# Altium footprint library PcbLib.PcbLib: 29 footprints (part 1 of 2)
Each footprint in its own frame and in the unit in brackets; x right, y up, seen from the top. Pads: shape width x height; smd on the part's side, far side on the other; paste and mask are expansions set on the pad; w line width, h text height; cw(c..) or ccw(c..) is an arc to the next point about the centre after c.
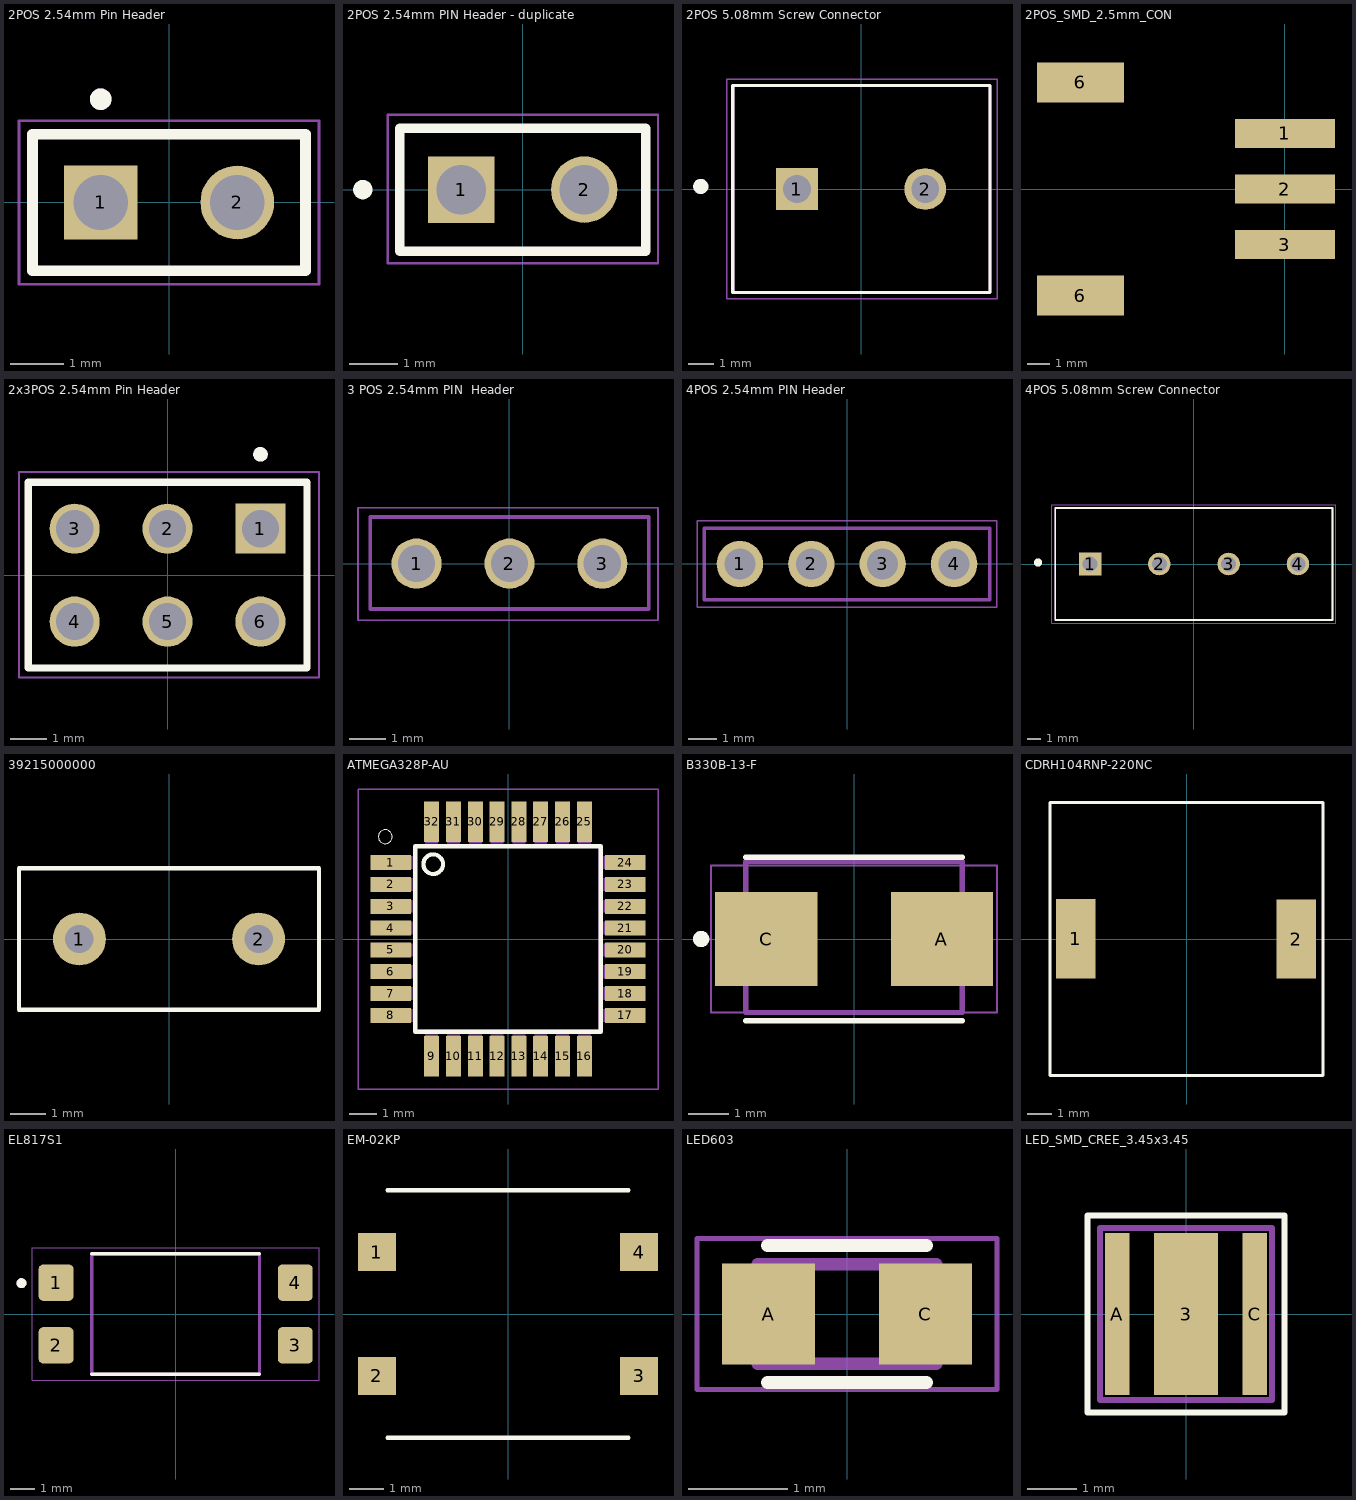
[diagram p0: the footprints below, top view; thin cyan lines are the x and y axes]

## 2POS 2.54mm Pin Header [mm]
pads (2):
  rect 1.37x1.37 hole 1.02: 1(-1.27,0)
  round 1.37 hole 1.02: 2(1.27,0)
Top Overlay:
  circle w0.2: c-1.27,1.92 r0.1
  lines w0.2: -2.54,-1.27 -2.54,1.27 2.54,1.27 2.54,-1.27 -2.54,-1.27
Mechanical 13:
  circle w0.2: c-1.27,1.92 r0.1
  lines w0.1: -2.54,-1.27 -2.54,1.27 2.54,1.27 2.54,-1.27 -2.54,-1.27
Mechanical 15:
  lines w0.05: -2.79,-1.52 -2.79,1.52 2.79,1.52 2.79,-1.52 -2.79,-1.52

## 2POS 2.54mm PIN Header - duplicate [mm]
pads (2):
  rect 1.37x1.37 hole 1.02: 1(-1.27,0)
  round 1.37 hole 1.02: 2(1.27,0)
Top Overlay:
  circle w0.2: c-3.302,0 r0.1
  lines w0.2: -2.54,-1.27 -2.54,1.27 2.54,1.27 2.54,-1.27 -2.54,-1.27
Mechanical 13:
  lines w0.1: -2.54,-1.27 -2.54,1.245 2.54,1.245 2.54,-1.27 -2.54,-1.27
Mechanical 15:
  lines w0.05: -2.79,-1.524 -2.79,1.549 2.794,1.549 2.794,-1.524 -2.79,-1.524

## 2POS 5.08mm Screw Connector [mm]
pads (2):
  rect 1.65x1.65 hole 1.1: 1(-2.54,0)
  round 1.65 hole 1.1: 2(2.54,0)
Top Overlay:
  circle w0.3: c-6.35,0.102 r0.15
  lines w0.127: -5.08,-4.1 -5.08,4.1 5.105,4.1 5.105,-4.1 -5.08,-4.1
Mechanical 13:
  circle w0.3: c-2.54,0 r0.15
  lines w0.127: -5.08,-4.1 -5.08,4.1 5.105,4.1 5.105,-4.1 -5.08,-4.1
Mechanical 15:
  lines w0.05: -5.33,-4.35 5.385,-4.35 5.385,4.35 -5.33,4.35 -5.33,-4.35

## 2POS_SMD_2.5mm_CON [mm]
pads (5):
  rect 4.5x1.3 smd: 1(0,2.5) 2(0,0) 3(0,-2.5)
  rect 3.9x1.8 smd: 6(-9.2,-4.8) 6(-9.2,4.8)

## 2x3POS 2.54mm Pin Header [mm]
pads (6):
  rect 1.37x1.37 hole 1.02: 1(2.54,1.27)
  round 1.37 hole 1.02: 2(0,1.27) 3(-2.54,1.27) 4(-2.54,-1.27) 5(0,-1.27) 6(2.54,-1.27)
Top Overlay:
  circle w0.2: c2.54,3.302 r0.1
  lines w0.2: -3.81,-2.54 -3.81,2.54 3.81,2.54 3.81,-2.54 -3.81,-2.54
Mechanical 13:
  lines w0.1: -3.81,-2.565 -3.81,2.515 3.81,2.515 3.81,-2.565 -3.81,-2.565
Mechanical 15:
  lines w0.05: -4.06,-2.794 -4.06,2.819 4.14,2.819 4.14,-2.794 -4.06,-2.794

## 3 POS 2.54mm PIN  Header [mm]
pads (3):
  round 1.37 hole 1.02: 1(-2.54,0) 2(0,0) 3(2.54,0)
Mechanical 13:
  lines w0.1: -3.81,-1.245 3.81,-1.245 3.81,1.27 -3.81,1.27 -3.81,-1.245
Mechanical 15:
  lines w0.05: -4.14,-1.549 -4.14,1.524 4.06,1.524 4.06,-1.549 -4.14,-1.549

## 4POS 2.54mm PIN Header [mm]
pads (4):
  round 1.65 hole 1.1: 1(-3.81,0) 2(-1.27,0) 3(1.27,0) 4(3.81,0)
Mechanical 13:
  lines w0.127: -5.08,-1.27 5.08,-1.27 5.08,1.27 -5.08,1.27 -5.08,-1.27
Mechanical 15:
  lines w0.05: -5.334,-1.544 -5.334,1.544 5.334,1.544 5.334,-1.544 -5.334,-1.544

## 4POS 5.08mm Screw Connector [mm]
pads (4):
  rect 1.65x1.65 hole 1.1: 1(-7.62,0)
  round 1.65 hole 1.1: 2(-2.54,0) 3(2.54,0) 4(7.62,0)
Top Overlay:
  circle w0.3: c-11.43,0.102 r0.15
  lines w0.127: -10.16,-4.1 -10.16,4.1 10.16,4.1 10.16,-4.1 -10.16,-4.1
Mechanical 13:
  circle w0.3: c-7.62,0 r0.15
  lines w0.127: -10.16,-4.1 -10.16,4.1 10.16,4.1 10.16,-4.1 -10.16,-4.1
Mechanical 15:
  lines w0.05: -10.41,-4.35 10.41,-4.35 10.41,4.35 -10.41,4.35 -10.41,-4.35
3D body "step_temp.STEP": height 7.25, standoff -6.25, extent -10.46,-4.136 10.46,4.064

## 39215000000 [mm]
pads (2):
  round 1.5 hole 0.8: 1(-2.54,0) 2(2.54,0)
Top Overlay:
  lines w0.125: -4.25,-2 4.25,-2 4.25,2 -4.25,2 -4.25,-2

## ATMEGA328P-AU [mm]
pads (32):
  rect 1.5x0.55 smd: 1(-4.3,2.8) 2(-4.3,2) 3(-4.3,1.2) 4(-4.3,0.4) 5(-4.3,-0.4) 6(-4.3,-1.2) 7(-4.3,-2) 8(-4.3,-2.8) 17(4.3,-2.8) 18(4.3,-2) 19(4.3,-1.2) 20(4.3,-0.4) 21(4.3,0.4) 22(4.3,1.2) 23(4.3,2) 24(4.3,2.8)
  rect 0.55x1.5 smd: 9(-2.8,-4.3) 10(-2,-4.3) 11(-1.2,-4.3) 12(-0.4,-4.3) 13(0.4,-4.3) 14(1.2,-4.3) 15(2,-4.3) 16(2.8,-4.3) 25(2.8,4.3) 26(2,4.3) 27(1.2,4.3) 28(0.4,4.3) 29(-0.4,4.3) 30(-1.2,4.3) 31(-2,4.3) 32(-2.8,4.3)
Top Overlay:
  circle w0: c-4.5,3.75 r0.254
  circle w0.152: c-2.743,2.743 r0.359
  lines w0.152: -3.4,-3.4 -3.4,3.4 3.4,3.4 3.4,-3.4 -3.4,-3.4
Mechanical 1:
  lines w0.125: -3.4,-3.375 3.375,-3.375 3.375,3.4 -3.4,3.4 -3.4,-3.375
  text ".Designator" at -2.398,-0.573 h1.02
Mechanical 13:
  region: -2.571,3.509 -3.032,3.509 -3.032,4.497 -2.571,4.497
  region: -1.771,3.512 -2.233,3.512 -2.233,4.497 -1.771,4.497
  region: -0.971,3.508 -1.43,3.508 -1.43,4.497 -0.971,4.497
  region: -0.171,3.513 -0.63,3.513 -0.63,4.497 -0.171,4.497
  region: 0.629,3.506 0.171,3.506 0.171,4.497 0.629,4.497
  region: 1.429,3.509 0.972,3.509 0.972,4.497 1.429,4.497
  region: 2.229,3.511 1.774,3.511 1.774,4.497 2.229,4.497
  region: 3.029,3.513 2.576,3.513 2.576,4.497 3.029,4.497
  region: 4.497,2.575 3.511,2.575 3.511,3.029 4.497,3.029
  region: 4.497,1.774 3.511,1.774 3.511,2.229 4.497,2.229
  region: 4.497,0.973 3.511,0.973 3.511,1.429 4.497,1.429
  region: 4.497,0.172 3.509,0.172 3.509,0.629 4.497,0.629
  region: 4.497,-0.629 3.509,-0.629 3.509,-0.171 4.497,-0.171
  region: 4.497,-1.431 3.511,-1.431 3.511,-0.971 4.497,-0.971
  region: 4.497,-2.233 3.513,-2.233 3.513,-1.771 4.497,-1.771
  region: 4.497,-3.029 3.507,-3.029 3.507,-2.571 4.497,-2.571
  region: 3.029,-4.503 2.575,-4.503 2.575,-3.506 3.029,-3.506
  region: 2.229,-4.504 1.774,-4.504 1.774,-3.506 2.229,-3.506
  region: 1.429,-4.498 0.972,-4.498 0.972,-3.506 1.429,-3.506
  region: 0.629,-4.502 0.172,-4.502 0.172,-3.506 0.629,-3.506
  region: -0.171,-4.498 -0.629,-4.498 -0.629,-3.506 -0.171,-3.506
  region: -0.971,-4.504 -1.431,-4.504 -1.431,-3.506 -0.971,-3.506
  region: -1.771,-4.5 -2.23,-4.5 -2.23,-3.506 -1.771,-3.506
  region: -2.571,-4.505 -3.035,-4.505 -3.035,-3.506 -2.571,-3.506
  region: -3.506,-3.032 -4.501,-3.032 -4.501,-2.571 -3.506,-2.571
  region: -3.506,-2.231 -4.501,-2.231 -4.501,-1.771 -3.506,-1.771
  region: -3.506,-1.43 -4.502,-1.43 -4.502,-0.971 -3.506,-0.971
  region: -3.506,-0.629 -4.503,-0.629 -4.503,-0.171 -3.506,-0.171
  region: -3.506,0.172 -4.5,0.172 -4.5,0.629 -3.506,0.629
  region: -3.506,0.972 -4.5,0.972 -4.5,1.429 -3.506,1.429
  region: -3.506,1.775 -4.505,1.775 -4.505,2.229 -3.506,2.229
  region: -3.506,2.572 -4.497,2.572 -4.497,3.029 -3.506,3.029
Mechanical 15:
  lines w0.05: -5.5,-5.5 -5.5,5.5 5.5,5.5 5.5,-5.5 -5.5,-5.5

## B330B-13-F [mm]
pads (2):
  rect 2.5x2.3 smd: A(2.15,0) C(-2.15,0)
Top Overlay:
  circle w0.2: c-3.746,0 r0.1
  lines w0.127: -2.65,-2 2.65,-2 ; -2.65,2 2.65,2
Mechanical 13:
  lines w0.127: -2.65,-1.8 -2.65,1.9 2.65,1.9 2.65,-1.8 -2.65,-1.8
Mechanical 15:
  lines w0.05: -3.5,-1.8 3.5,-1.8 3.5,1.8 -3.5,1.8 -3.5,-1.8

## CDRH104RNP-220NC [mm]
pads (2):
  rect 1.6x3.2 smd: 1(-4.471,0.01) 2(4.429,0)
Top Overlay:
  lines w0.125: -5.5,-5.5 5.5,-5.5 5.5,5.5 -5.5,5.5 -5.5,-5.5

## EL817S1 [mm]
pads (4):
  rrect25% 1.41x1.47 smd: 1(-4.85,1.27) 2(-4.85,-1.27) 3(4.85,-1.27) 4(4.85,1.27)
Top Overlay:
  circle w0.2: c-6.25,1.25 r0.1
  lines w0.127: -3.4,-2.44 3.4,-2.44 ; -3.4,2.44 3.4,2.44
Mechanical 13:
  circle w0.2: c-6.25,1.25 r0.1
  lines w0.127: -3.4,-2.44 3.4,-2.44 3.4,2.44 -3.4,2.44 -3.4,-2.44
Mechanical 15:
  lines w0.05: -5.81,-2.69 -5.81,2.69 5.81,2.69 5.81,-2.69 -5.81,-2.69

## EM-02KP [mm]
pads (4):
  rect 1.1x1.1 smd: 1(-3.81,1.8) 2(-3.81,-1.8) 3(3.81,-1.8) 4(3.81,1.8)
Top Overlay:
  lines w0.125: -3.5,-3.6 3.5,-3.6 ; -3.5,3.6 3.5,3.6

## LED603 [mm]
pads (2):
  rect 0.94x1.02 smd: A(-0.79,0) C(0.79,0)
Top Overlay:
  lines w0.127: -0.8,-0.69 0.8,-0.69 ; -0.8,0.69 0.8,0.69
Mechanical 13:
  lines w0.127: -0.9,-0.5 0.9,-0.5 0.9,0.5 -0.9,0.5 -0.9,-0.5
Mechanical 15:
  lines w0.05: -1.51,-0.76 1.51,-0.76 1.51,0.76 -1.51,0.76 -1.51,-0.76

## LED_SMD_CREE_3.45x3.45 [mm]
pads (3):
  rect 1.3x3.3 smd: 3(0,0)
  rect 0.5x3.3 smd: A(-1.4,0) C(1.4,0)
Top Overlay:
  lines w0.125: -2,-2 2,-2 2,2 -2,2 -2,-2
Mechanical 1:
  lines w0.125: -1.75,-1.75 -1.75,1.75 1.75,1.75 1.75,-1.75 -1.75,-1.75
  text "-" at 0.95,-1.5 h0.76
  text "+" at -1.425,-1.5 h0.76
  text ".designator" at -1.425,0 h0.76